# Altium footprint library 2560TK_PCBLib.PcbLib: 12 footprints
Each footprint in its own frame and in the unit in brackets; x right, y up, seen from the top. Pads: shape width x height; smd on the part's side, far side on the other; paste and mask are expansions set on the pad; w line width, h text height; cw(c..) or ccw(c..) is an arc to the next point about the centre after c.
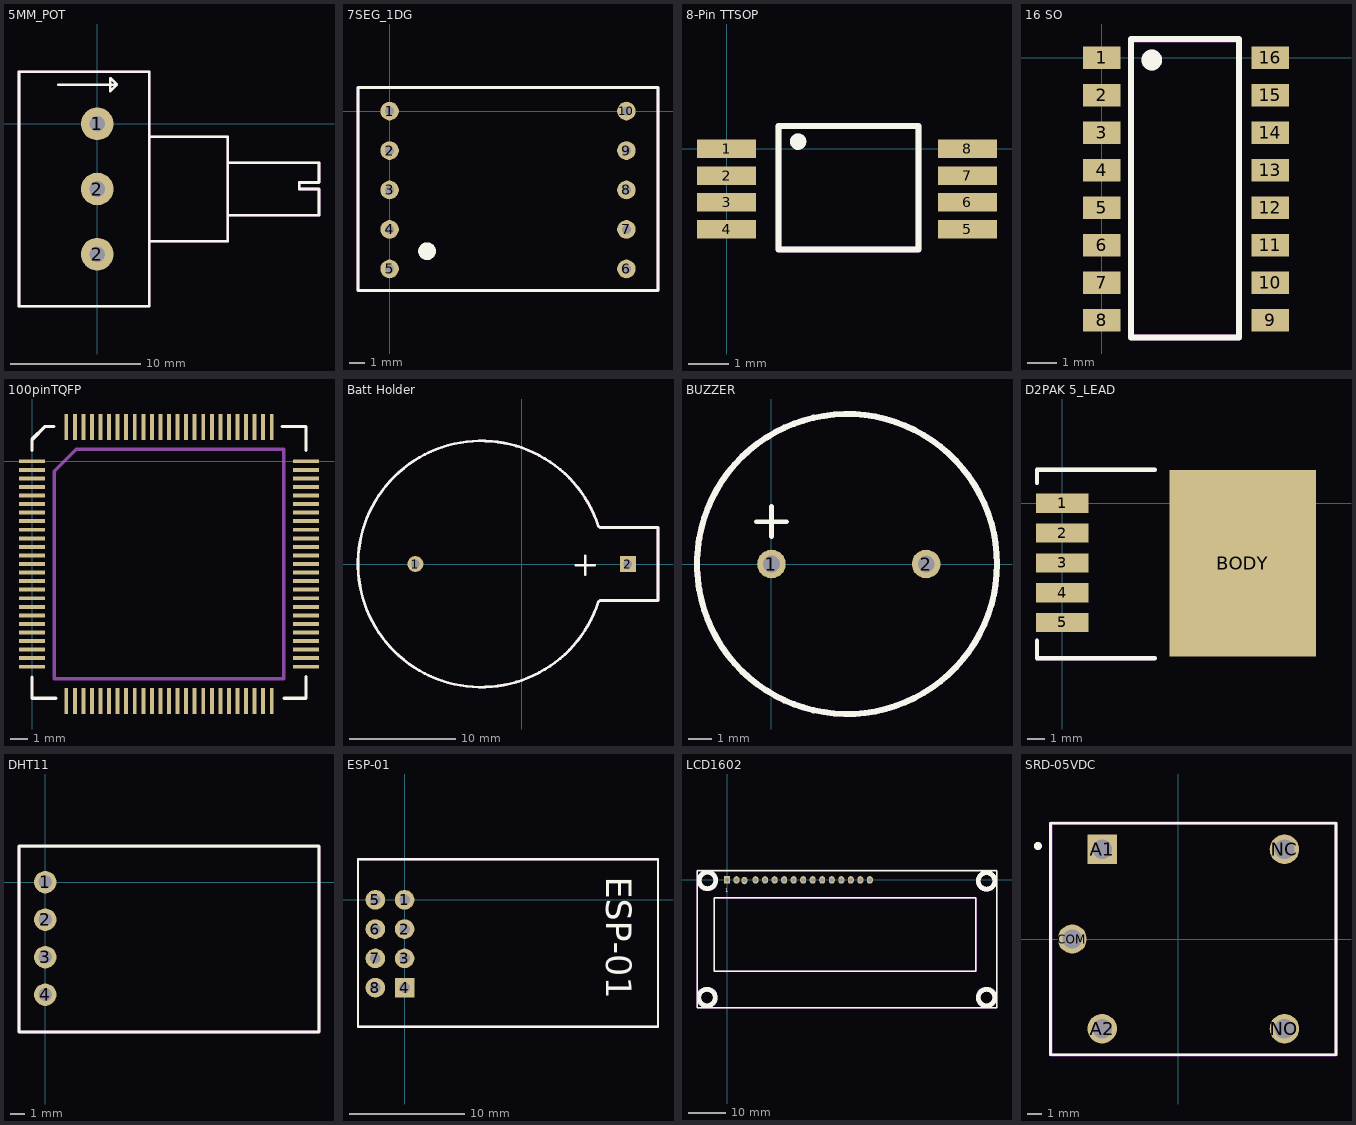
[diagram p0: the footprints below, top view; thin cyan lines are the x and y axes]

## 5MM_POT [mm]
pads (3):
  round 2.5 hole 1.22: 1(0,0) 2(0,-10) 2(0,-5)
Top Overlay:
  lines w0.2: -3,3 1.5,3 ; 4,-9 10,-9 10,-1 4,-1 ; 10,-7 17,-7 17,-5 15.5,-5 15.5,-4.5 17,-4.5 17,-3 10,-3 ; 1.5,3 1,2.5 1,3 1,3.5 1.5,3 ; 1.5,3 1.5,3 ; -6,-14 -6,-10 -6,0 -6,4 0,4 4,4 4,0 4,-10 4,-14 0,-14 -6,-14
Mechanical 29:
  lines w0.2: 4,-9 10,-9 10,-1 4,-1 ; 10,-7 17,-7 17,-5 15.5,-5 15.5,-4.5 17,-4.5 17,-3 10,-3 ; -6,-14 -6,4 4,4 4,-14 -6,-14
  text ".Designator" at -2.233,-15 h2.2
3D body "PotentiometerB10K.step": height 23.48, standoff -4.35, extent -5.763,-15.021 23.237,5.219

## 7SEG_1DG [mm]
pads (10):
  round 1.2 hole 0.6: 1(0,0) 2(0,-2.54) 3(0,-5.08) 4(0,-7.62) 5(0,-10.16) 6(15.24,-10.16) 7(15.24,-7.62) 8(15.24,-5.08) 9(15.24,-2.54) 10(15.24,0)
Top Overlay:
  circle w0.635: c2.413,-9.017 r0.254
  lines w0.2: -2.032,-11.557 17.272,-11.557 17.272,1.524 -1.905,1.524 -2.032,1.524 -2.032,-11.557
Mechanical 29:
  lines w0.2: -2.032,-11.557 17.272,-11.557 17.272,1.524 -2.032,1.524 -2.032,-11.557
  text ".Designator" at 1.135,-6.133 h2.2
3D body "King Bright SA05-11.step": height 8.01, standoff -3.99, extent -1.88,-11.43 17.12,1.27

## 8-Pin TTSOP [mm]
pads (8):
  rect 1.45x0.45 smd mask+0.051: 1(0,0) 2(0,-0.655) 3(0,-1.31) 4(0,-1.965) 5(5.9,-1.965) 6(5.9,-1.31) 7(5.9,-0.655) 8(5.9,0)
Top Overlay:
  circle w0.2: c1.753,0.178 r0.1
  lines w0.152: 1.27,-2.464 4.699,-2.464 4.699,0.559 1.27,0.559 1.27,-2.464
Mechanical 29:
  circle w0.2: c1.751,0.178 r0.1
  lines w0.152: 1.27,-2.464 4.699,-2.464 4.699,0.559 1.27,0.559 1.27,-2.464
  text ".Designator" at 1.549,-1.482 h0.81
3D body "8 (TSSOP).step": height 1.2, standoff 0, extent -0.307,-2.465 6.149,0.535

## 16 SO [mm]
pads (16):
  rect 1.27x0.76 smd: 1(0,0) 2(0,-1.27) 3(0,-2.54) 4(0,-3.81) 5(0,-5.08) 6(0,-6.35) 7(0,-7.62) 8(0,-8.89) 9(5.72,-8.89) 10(5.72,-7.62) 11(5.72,-6.35) 12(5.72,-5.08) 13(5.72,-3.81) 14(5.72,-2.54) 15(5.72,-1.27) 16(5.72,0)
Top Overlay:
  circle w0.4: c1.702,-0.076 r0.152
  lines w0.2: 0.991,-9.474 4.648,-9.474 4.648,0.635 0.991,0.635 0.991,-9.474
Mechanical 29:
  circle w0.4: c1.702,-0.076 r0.152
  lines w0.2: 0.991,-9.474 4.648,-9.474 4.648,0.61 0.991,0.61 0.991,-9.474
  text ".Designator" at 2.438,0.435 h1
3D body "SOIC-16.step": height 1.4, standoff 0, extent -0.206,-9.395 5.794,0.505

## 100pinTQFP [mm]
pads (100):
  rect 1.52x0.23 smd: 1(0,0) 2(0,-0.5) 3(0,-1) 4(0,-1.5) 5(0,-2) 6(0,-2.5) 7(0,-3) 8(0,-3.5) 9(0,-4) 10(0,-4.5) 11(0,-5) 12(0,-5.5) 13(0,-6) 14(0,-6.5) 15(0,-7) 16(0,-7.5) 17(0,-8) 18(0,-8.5) 19(0,-9) 20(0,-9.5) 21(0,-10) 22(0,-10.5) 23(0,-11) 24(0,-11.5) 25(0,-12) 51(16,-12) 52(16,-11.5) 53(16,-11) 54(16,-10.5) 55(16,-10) 56(16,-9.5) 57(16,-9) 58(16,-8.5) 59(16,-8) 60(16,-7.5) 61(16,-7) 62(16,-6.5) 63(16,-6) 64(16,-5.5) 65(16,-5) 66(16,-4.5) 67(16,-4) 68(16,-3.5) 69(16,-3) 70(16,-2.5) 71(16,-2) 72(16,-1.5) 73(16,-1) 74(16,-0.5) 75(16,0)
  rect 0.23x1.52 smd: 26(2,-14) 27(2.5,-14) 28(3,-14) 29(3.5,-14) 30(4,-14) 31(4.5,-14) 32(5,-14) 33(5.5,-14) 34(6,-14) 35(6.5,-14) 36(7,-14) 37(7.5,-14) 38(8,-14) 39(8.5,-14) 40(9,-14) 41(9.5,-14) 42(10,-14) 43(10.5,-14) 44(11,-14) 45(11.5,-14) 46(12,-14) 47(12.5,-14) 48(13,-14) 49(13.5,-14) 50(14,-14) 76(14,2) 77(13.5,2) 78(13,2) 79(12.5,2) 80(12,2) 81(11.5,2) 82(11,2) 83(10.5,2) 84(10,2) 85(9.5,2) 86(9,2) 87(8.5,2) 88(8,2) 89(7.5,2) 90(7,2) 91(6.5,2) 92(6,2) 93(5.5,2) 94(5,2) 95(4.5,2) 96(4,2) 97(3.5,2) 98(3,2) 99(2.5,2) 100(2,2)
Top Overlay:
  lines w0.2: 0,-12.598 0,-13.843 1.397,-13.843 ; 0,0.635 0,1.27 0.762,2.032 1.27,2.032 ; 14.605,2.032 16.002,2.032 16.002,0.635 ; 14.732,-13.843 16.002,-13.843 16.002,-12.573
Mechanical 29:
  lines w0.2: 1.295,-12.7 14.707,-12.7 14.707,0.711 2.591,0.711 1.295,-0.584 1.295,-12.7
  text ".Designator" at 2.21,-6.934 h1.52
3D body "TQFP100_Grid_0_5.STEP": height 1.2, standoff 0, extent 0.001,-13.969 16.001,2.031

## Batt Holder [mm]
pads (2):
  round 1.5 hole 0.8: 1(-10,0)
  rect 1.5x1.5 hole 0.8: 2(10,0)
Top Overlay:
  lines w0.254: 5.08,-0.127 6.858,-0.127 ; 5.969,-1.016 5.969,0.762 ; 7.211,-3.581 cw(c-3.81,0) 7.211,3.581 7.362,3.429 12.827,3.429 12.827,-3.429 7.362,-3.429 7.211,-3.581
Mechanical 29:
  lines w0.254: 7.211,-3.581 cw(c-3.81,0) 7.211,3.581 7.362,3.429 12.827,3.429 12.827,-3.429 7.362,-3.429 7.211,-3.581
  text ".Designator" at -11.481,3.039 h1.65
3D body "User Library-CR 2032 Lithium Cell.step": height 5.84, standoff 2.64, extent -13.048,-10.254 6.952,9.746
3D body "User Library-20mm_coin_holder.step": height 8.68, standoff -3.49, extent -14.802,-11.5 12.629,11.5

## BUZZER [mm]
pads (2):
  round 1.2 hole 0.7: 1(0,0) 2(6.5,0)
Top Overlay:
  circle w0.254: c3.175,0 r6.305
  lines w0.2: -0.635,1.778 0.635,1.778 ; 0,1.143 0,2.413
Mechanical 29:
  circle w0.254: c3.175,0 r6.305
  text ".Designator" at -2.032,-2.159 h1.14
3D body "buzzer.STEP": height 9, standoff -3, extent -2.724,-5.975 9.276,6.025

## D2PAK 5_LEAD [mm]
pads (6):
  rect 3x1.1 smd: 1(0,0) 2(0,-1.702) 3(0,-3.404) 4(0,-5.106) 5(0,-6.808)
  rect 8.38x10.66 smd: BODY(10.32,-3.42)
Top Overlay:
  lines w0.254: -1.444,-7.849 -1.444,-8.865 5.287,-8.865 ; -1.444,1.168 -1.444,1.93 5.287,1.93
Mechanical 29:
  lines w0.254: -1.444,-7.849 -1.444,-8.865 5.287,-8.865 ; -1.444,1.168 -1.444,1.93 5.287,1.93
  text ".Designator" at 0.08,-3.658 h1.52
3D body "D²PAK TO-263-5.step": height 4.87, standoff 0, extent -0.812,-8.484 13.418,1.676

## DHT11 [mil]
pads (4):
  round 60 hole 35: 1(0,0) 2(0,-100) 3(0,-200) 4(0,-300)
Top Overlay:
  lines w7.87: -70,-400 730,-400 730,97 -70,97 ; -70,-399 -70,96
Mechanical 29:
  lines w7.87: -70,-400 730,-400 730,95 -70,95 -70,-400
  text ".Designator" at 64.69,-173.66 h65
3D body "User Library-DHT11-right.step": height 216.54, standoff -102.36, extent -13.22,-386.22 715.13,86.22

## ESP-01 [mm]
pads (8):
  round 1.7 hole 0.9: 1(0,0) 2(0,-2.54) 3(0,-5.08) 5(-2.54,0) 6(-2.54,-2.54) 7(-2.54,-5.08) 8(-2.54,-7.62)
  rect 1.7x1.7 hole 0.9: 4(0,-7.62)
Top Overlay:
  lines w0.2: -4.04,-11 -4.04,3.5 21.96,3.5 21.96,-11 -4.04,-11
  text "ESP-01" at 17.46,2 h2.2
Mechanical 29:
  lines w0.2: -4.04,-11 21.96,-11 21.96,3.5 -4.04,3.5 -4.04,-11
  text ".Designator" at 2.46,-5.767 h2.2
3D body "ESP8266 ESP-01.step": height 7.88, standoff -3.8, extent -4.043,-11.058 20.757,3.442

## LCD1602 [mm]
pads (16):
  rect 1.6x2 hole 1.1: 1(0,0)
  oval 1.6x2 hole 1.1: 2(2.54,0) 3(4.648,-0.152) 4(7.62,0) 5(10.16,0) 6(12.7,0) 7(15.24,0) 8(17.78,0) 9(20.32,0) 10(22.86,0) 11(25.4,0) 12(27.94,0) 13(30.48,0) 14(33.02,0) 15(35.56,0) 16(38.1,0)
Top Overlay:
  circle w1.27: c-5.334,-31.369 r2.2
  circle w1.27: c69.215,-31.369 r2.2
  circle w1.27: c69.215,-0.254 r2.2
  circle w1.27: c-5.207,-0.127 r2.2
  lines w0.381: -8,-34.036 13.236,-34.036 72,-34.036 72,2.5 18.074,2.5 -8,2.5 -8,-34.036 ; -3.4,-24.355 -3.371,-24.384 -3.048,-24.384 66.316,-24.384 66.4,-24.3 66.4,-4.9 66.3,-4.8 -3.4,-4.8 -3.4,-24.032 -3.4,-24.355
  text "1" at -0.457,-3.251 h1.02
Mechanical 29:
  circle w1.27: c-5.207,-0.127 r2.2
  circle w1.27: c69.215,-0.254 r2.2
  circle w1.27: c69.215,-31.369 r2.2
  circle w1.27: c-5.334,-31.369 r2.2
  lines w0.381: -8.001,-34.036 -8.001,2.54 72.009,2.54 72.009,-34.036 -8.001,-34.036 ; -3.429,-24.384 -3.429,-4.826 66.421,-4.826 66.421,-24.384 -3.429,-24.384
  text ".Designator" at 19.558,-15.156 h2.54
3D body "Header1x2.STEP": height 8.45, standoff -2.53, extent -1.306,-1.226 3.774,1.314
3D body "Header1x2.STEP": height 8.45, standoff -2.53, extent 3.759,-1.219 8.839,1.321
3D body "Header1x2.STEP": height 8.45, standoff -2.53, extent 8.992,-1.245 14.072,1.295
3D body "Header1x2.STEP": height 8.45, standoff -2.53, extent 14.072,-1.245 19.152,1.295
3D body "Header1x2.STEP": height 8.45, standoff -2.53, extent 19.152,-1.245 24.232,1.295
3D body "Header1x2.STEP": height 8.45, standoff -2.53, extent 24.232,-1.245 29.312,1.295
3D body "Header1x2.STEP": height 8.45, standoff -2.53, extent 29.312,-1.245 34.392,1.295
3D body "Header1x2.STEP": height 8.45, standoff -2.53, extent 34.392,-1.245 39.472,1.295
3D body "LCD1602.step": height 14.35, standoff 2.3, extent -7.903,-33.951 72.097,2.049

## SRD-05VDC [mm]
pads (5):
  rect 1.98x1.98 hole 1.32: A1(-5.1,6)
  round 1.98 hole 1.32: A2(-5.1,-6) NC(7.1,6) NO(7.1,-6)
  round 1.935 hole 1.29: COM(-7.1,0)
Top Overlay:
  circle w0.279: c-9.398,6.223 r0.127
  lines w0.178: -8.55,-7.75 10.55,-7.75 10.55,7.75 -8.55,7.75 -8.55,-7.75
Mechanical 29:
  lines w0.2: -8.509,-7.747 -8.509,7.747 10.541,7.747 10.541,-7.747 -8.509,-7.747
  text ".Designator" at -5.469,-2.323 h2.2
3D body "Relay - SRD-03VDC-SL-C.stp": height 14.94, standoff -3.61, extent -8.331,-7.544 10.363,7.544